# Altium footprint library SS24-E352T.PcbLib: 3 footprints
Each footprint in its own frame and in the unit in brackets; x right, y up, seen from the top. Pads: shape width x height; smd on the part's side, far side on the other; paste and mask are expansions set on the pad; w line width, h text height; cw(c..) or ccw(c..) is an arc to the next point about the centre after c.
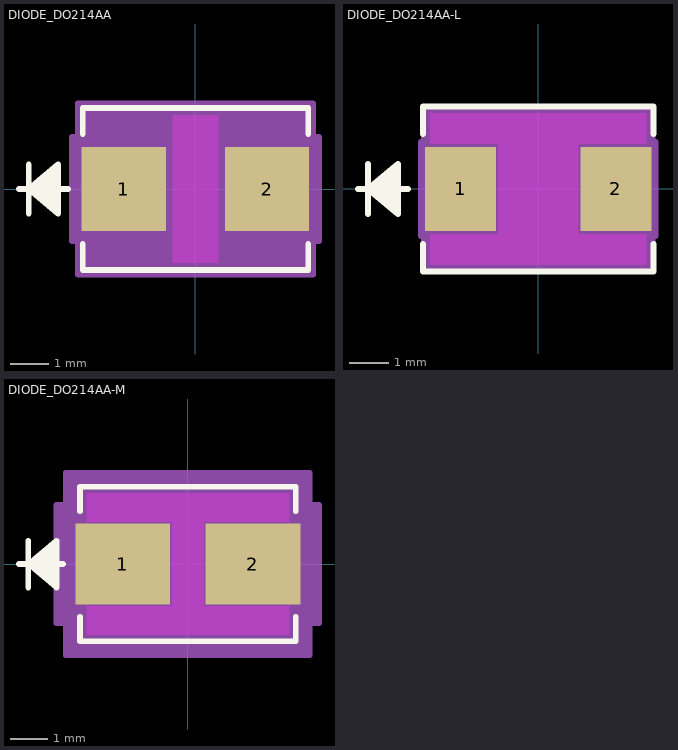
[diagram p0: the footprints below, top view; thin cyan lines are the x and y axes]

## DIODE_DO214AA [mil]
pads (2):
  rect 86x86 smd paste-43 mask-43: 1(-73,0) 2(73,0)
Top Layer keep-out:
  region: -23,-75 -23,75 23,75 23,-75
Top Overlay:
  lines w6: -180,0 -130,0 ; -170,-25 -170,25 ; -140,-20 -170,0 ; -140,-15 -170,0 ; -140,-10 -170,0 ; -140,-5 -170,0 ; -140,5 -170,0 ; -140,10 -170,0 ; -140,15 -170,0 ; -140,20 -170,0 ; -115,-56.1 -115,-82.5 115,-82.5 115,-56.1 ; -115,56.1 -115,82.5 115,82.5 115,56.1 ; -170,0 -140,25 -140,-25 -170,0
Keep-Out Layer:
  region: -23,-75 -23,75 23,75 23,-75
Mechanical 13:
  lines w1: -180,0 -130,0 ; -170,-25 -170,25 ; -140,-20 -170,0 ; -140,-15 -170,0 ; -140,-10 -170,0 ; -140,-5 -170,0 ; -140,5 -170,0 ; -140,10 -170,0 ; -140,15 -170,0 ; -140,20 -170,0 ; -170,0 -140,25 -140,-25 -170,0 ; -110,-77.5 110,-77.5 110,77.5 -110,77.5 -110,-77.5
Mechanical 15:
  region: -120,-53 -126,-53 -126,53 -120,53 -120,87.5 120,87.5 120,53 126,53 126,-53 120,-53 120,-87.5 -120,-87.5
  lines w6: -126,-53 -126,53 -120,53 -120,87.5 120,87.5 120,53 126,53 126,-53 120,-53 120,-87.5 -120,-87.5 -120,-53 -126,-53
3D body "DIODE_DO214AA.step": height 97.99, standoff 0, extent -110,-77.48 110,77.48

## DIODE_DO214AA-L [mil]
pads (2):
  rect 71x84 smd paste+0 mask+0: 1(-77.5,0) 2(77.5,0)
Top Layer keep-out:
  region: -40,-45 -40,45 40,45 40,-45
  region: -108,45 -108,75.5 108,75.5 108,45
  region: -108,-75.5 -108,-45 108,-45 108,-75.5
Top Overlay:
  lines w6: -180,0 -130,0 ; -170,-25 -170,25 ; -140,-20 -170,0 ; -140,-15 -170,0 ; -140,-10 -170,0 ; -140,-5 -170,0 ; -140,5 -170,0 ; -140,10 -170,0 ; -140,15 -170,0 ; -140,20 -170,0 ; -115,-54.95 -115,-82.5 115,-82.5 115,-54.95 ; -115,54.95 -115,82.5 115,82.5 115,54.95 ; -170,0 -140,25 -140,-25 -170,0
Keep-Out Layer:
  region: -40,-45 -40,45 40,45 40,-45
Mechanical 13:
  lines w1: -180,0 -130,0 ; -170,-25 -170,25 ; -140,-20 -170,0 ; -140,-15 -170,0 ; -140,-10 -170,0 ; -140,-5 -170,0 ; -140,5 -170,0 ; -140,10 -170,0 ; -140,15 -170,0 ; -140,20 -170,0 ; -170,0 -140,25 -140,-25 -170,0 ; -110,-77.5 110,-77.5 110,77.5 -110,77.5 -110,-77.5
Mechanical 15:
  region: -114,-47 -117,-47 -117,47 -114,47 -114,81.5 114,81.5 114,47 117,47 117,-47 114,-47 114,-81.5 -114,-81.5
  lines w6: -117,-47 -117,47 -114,47 -114,81.5 114,81.5 114,47 117,47 117,-47 114,-47 114,-81.5 -114,-81.5 -114,-47 -117,-47
3D body "DIODE_DO214AA.step": height 97.99, standoff 0, extent -110,-77.48 110,77.48

## DIODE_DO214AA-M [mil]
pads (2):
  rect 101x86 smd paste+0 mask+0: 1(-69.5,0) 2(69.5,0)
Top Layer keep-out:
  region: -17,-45 -17,45 17,45 17,-45
  region: -108,45 -108,75.5 108,75.5 108,45
  region: -108,-75.5 -108,-45 108,-45 108,-75.5
Top Overlay:
  lines w6: -180,0 -133.1,0 ; -170,-25 -170,25 ; -140,-20 -170,0 ; -140,-15 -170,0 ; -140,-10 -170,0 ; -140,-5 -170,0 ; -140,5 -170,0 ; -140,10 -170,0 ; -140,15 -170,0 ; -140,20 -170,0 ; -115,-56.1 -115,-82.5 115,-82.5 115,-56.1 ; -115,56.1 -115,82.5 115,82.5 115,56.1 ; -170,0 -140,25 -140,-25 -170,0
Keep-Out Layer:
  region: -17,-45 -17,45 17,45 17,-45
Mechanical 13:
  lines w1: -180,0 -130,0 ; -170,-25 -170,25 ; -140,-20 -170,0 ; -140,-15 -170,0 ; -140,-10 -170,0 ; -140,-5 -170,0 ; -140,5 -170,0 ; -140,10 -170,0 ; -140,15 -170,0 ; -140,20 -170,0 ; -170,0 -140,25 -140,-25 -170,0 ; -110,-77.5 110,-77.5 110,77.5 -110,77.5 -110,-77.5
Mechanical 15:
  region: -130,-63 -140,-63 -140,63 -130,63 -130,97.5 130,97.5 130,63 140,63 140,-63 130,-63 130,-97.5 -130,-97.5
  lines w6: -140,-63 -140,63 -130,63 -130,97.5 130,97.5 130,63 140,63 140,-63 130,-63 130,-97.5 -130,-97.5 -130,-63 -140,-63
3D body "DIODE_DO214AA.step": height 97.99, standoff 0, extent -110,-77.48 110,77.48